# EAGLE library part WURTH_ELEKTRONIK_ELECTROMECHANIC_TERMINAL_BLOCKS_CONNECTORS_REV19D_691311500015 (library CR1000X proto)
WR-TBL Serie 311 - 5.08 mm Open Vertical PCB Header , 15 Pins=>Code : Con_TBL_Pluggable_5.08_PCB_THT_Simple_V_691311500015 <http://katalog.we-online.de/media/images/eican/Con_TBL_Pluggable_5.08_PCB_THT_Simple_V_6913115000xx_pf2.jpg> Details see: http://katalog.we-online.de/en/em/TBL_5_08_311_OPEN_VERTICAL_PCB_HEADER_6913115000XX Created 2014-06-23, Karrer Zheng 2014 (C) Würth Elektronik
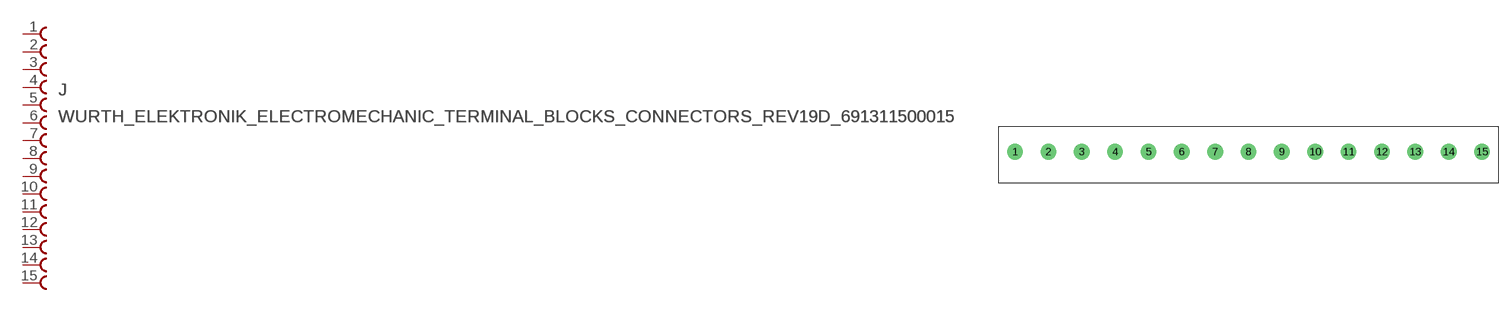
[diagram p0: symbol with the pads of WURTH_ELEKTRONIK_ELECTROMECHANIC_TERMINAL_BLOCKS_CONNECTORS_REV19D_691311500015; footprint WURTH_ELEKTRONIK_ELECTROMECHANIC_TERMINAL_BLOCKS_CONNECTORS_REV19D_691311500015]

Designator prefix J

## WURTH_ELEKTRONIK_ELECTROMECHANIC_TERMINAL_BLOCKS_CONNECTORS_REV19D_691311500015  [WURTH_ELEKTRONIK_ELECTROMECHANIC_TERMINAL_BLOCKS_CONNECTORS_REV19D_691311500015]
1  1  pas
2  2  pas
3  3  pas
4  4  pas
5  5  pas
6  6  pas
7  7  pas
8  8  pas
9  9  pas
10  10  pas
11  11  pas
12  12  pas
13  13  pas
14  14  pas
15  15  pas

## Footprint WURTH_ELEKTRONIK_ELECTROMECHANIC_TERMINAL_BLOCKS_CONNECTORS_REV19D_691311500015 (pad centres in mm)
WR-TBL Serie 311 - 5.08 mm Open Vertical PCB Header , 15 Pins
drill 1.6: 1 -35.56,0; 2 -30.48,0; 3 -25.4,0; 4 -20.32,0; 5 -15.24,0; 6 -10.16,0; 7 -5.08,0; 8 0,0; 9 5.08,0; 10 10.16,0; 11 15.24,0; 12 20.32,0; 13 25.4,0; 14 30.48,0; 15 35.56,0